# Altium schematic symbol library msp_SchLib.SchLib: 19 symbols
Pins are listed as number, name and electrical type; pins without a type are passive.

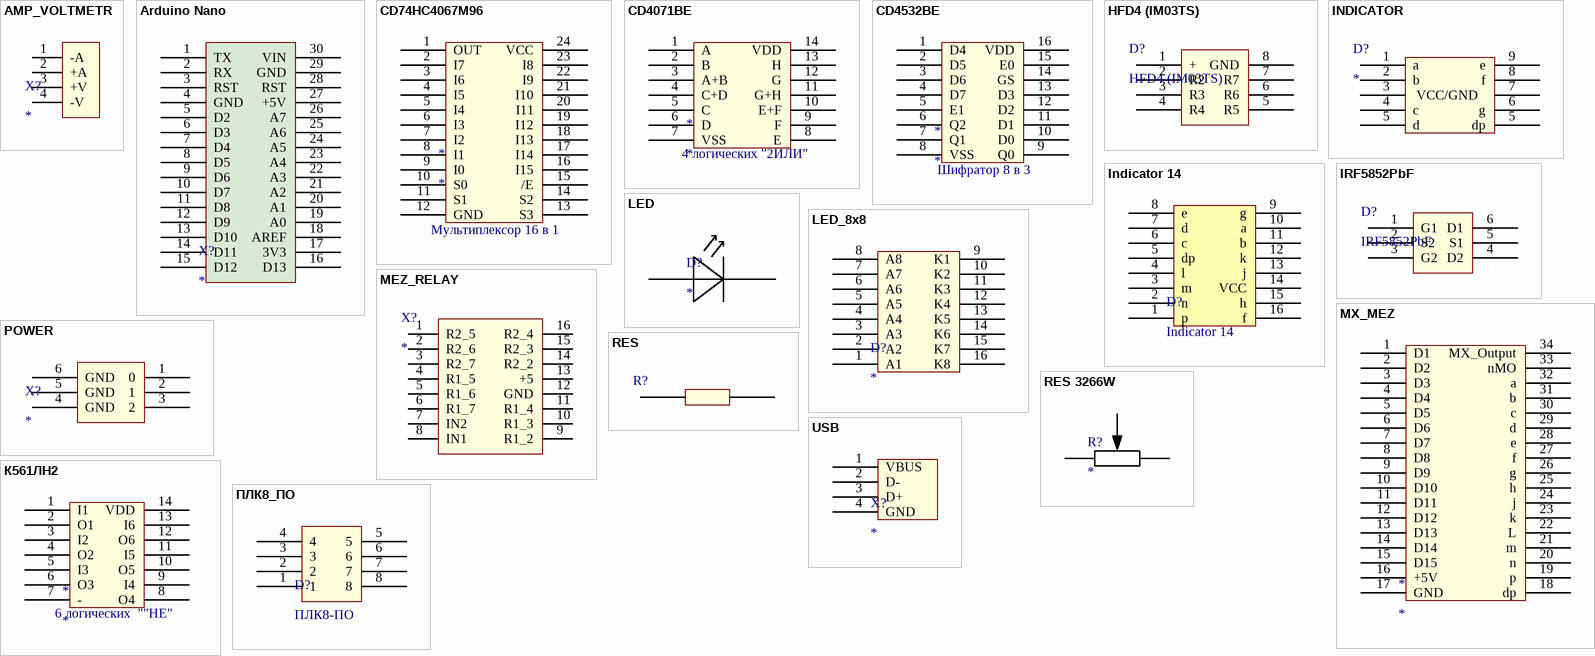
[diagram p0: symbols AMP_VOLTMETR to ПЛК8_ПО]

## AMP_VOLTMETR
designator X?
footprint AMP_VOLTMETR
pins: 1 -A, 2 +A, 3 +V, 4 -V

## Arduino Nano
designator X?
footprint Arduino Nano
pins: 1 TX, 2 RX, 3 RST, 4 GND, 5 D2, 6 D3, 7 D4, 8 D5, 9 D6, 10 D7, 11 D8, 12 D9, 13 D10, 14 D11, 15 D12, 16 D13, 17 3V3, 18 AREF, 19 A0, 20 A1, 21 A2, 22 A3, 23 A4, 24 A5, 25 A6, 26 A7, 27 +5V, 28 RST, 29 GND, 30 VIN

## CD74HC4067M96
designator *
16-и канальный аналоговый мультиплексор/ демультиплексор, [SO-24]
footprint SOIC-24
pins: 1 OUT, 2 I7, 3 I6, 4 I5, 5 I4, 6 I3, 7 I2, 8 I1, 9 I0, 10 S0, 11 S1, 12 GND, 13 S3, 14 S2, 15 /E, 16 I15, 17 I14, 18 I13, 19 I12, 20 I11, 21 I10, 22 I9, 23 I8, 24 VCC
text: Мультиплексор 16 в 1

## CD4071BE
designator *
Четыре логических элемента "2ИЛИ", [DIP-14]
footprint Dip14_pannel
pins: 1 A, 2 B, 3 A+B, 4 C+D, 5 C, 6 D, 7 VSS, 8 E, 9 F, 10 E+F, 11 G+H, 12 G, 13 H, 14 VDD
text: 4 логических "2ИЛИ"

## CD4532BE
designator *
Шифратор приоритетный 8 - 3 [DIP-16]
footprint DIP16_PANNEL
pins: 1 D4, 2 D5, 3 D6, 4 D7, 5 E1, 6 Q2, 7 Q1, 8 VSS, 9 Q0, 10 D0, 11 D1, 12 D2, 13 D3, 14 GS, 15 E0, 16 VDD
text: Шифратор 8 в 3

## HFD4 (IM03TS)
designator D?
footprint HFD4 (IM03TS)
pins: 1 +, 2 R2, 3 R3, 4 R4, 5 R5, 6 R6, 7 R7, 8 GND

## INDICATOR
designator D?
pins: 1 a, 2 b, 3  VCC/GND, 4 c, 5 d, 5 dp, 6 g, 7 16, 8 f, 9 e

## Indicator 14
designator D?
footprint INDICATIR 14 (24.064)
pins: 1 p, 2 n, 3 m, 4 l, 5 dp, 6 c, 7 d, 8 e, 9 g, 10 a, 11 b, 12 k, 13 j, 14 VCC, 15 h, 16 f

## IRF5852PbF
designator D?
footprint IRF5852PbF (TSOP, 6-Leads, Body 3,00x1,50mm, Pitch 1,00mm, IPC Medium Density)
pins: 1 G1, 2 S2, 3 G2, 4 D2, 5 S1, 6 D1

## LED
designator D?
footprint LED 24.063
footprint LED 24.069
pins: 1, 2

## LED_8x8
designator D?
footprint LED_8x8 (24.067)
pins: 1 A1, 2 A2, 3 A3, 4 A4, 5 A5, 6 A6, 7 A7, 8 A8, 9 K1, 10 K2, 11 K3, 12 K4, 13 K5, 14 K6, 15 K7, 16 K8

## MEZ_RELAY
designator X?
footprint MEZ_RELAY (мезонин реле)
pins: 1 R2_5, 2 R2_6, 3 R2_7, 4 R1_5, 5 R1_6, 6 R1_7, 7 IN2, 8 IN1, 9 R1_2, 10 R1_3, 11 R1_4, 12 GND, 13 +5, 14 R2_2, 15 R2_3, 16 R2_4

## MX_MEZ
designator *
footprint MX_MEZ
pins: 1 D1, 2 D2, 3 D3, 4 D4, 5 D5, 6 D6, 7 D7, 8 D8, 9 D9, 10 D10, 11 D11, 12 D12, 13 D13, 14 D14, 15 D15, 16 +5V, 17 GND, 18 dp, 19 p, 20 n, 21 m, 22 L, 23 k, 24 j, 25 h, 26 g, 27 f, 28 e, 29 d, 30 c, 31 b, 32 a, 33 nMO, 34 MX_Output

## POWER
designator X?
footprint POWER
pins: 1 0, 2 1, 3 2, 4 GND, 5 GND, 6 GND

## RES
designator R?, comment resistor  (value not drawn)
footprint RES 0805
pins: 1, 2

## RES 3266W
designator R?
footprint RES 3266W
pins: 1, 2, 3

## USB
designator X?
footprint USB
pins: 1 VBUS, 2 D-, 3 D+, 4 GND

## К561ЛН2
designator *
Шесть логических элементов "HЕ" (DIP-14)
footprint Dip14_pannel
pins: 1 I1, 2 O1, 3 I2, 4 O2, 5 I3, 6 O3, 7 -, 8 O4, 9 I4, 10 O5, 11 I5, 12 O6, 13 I6, 14 VDD
text: 6 логических  ""НЕ"

## ПЛК8_ПО
designator D?, comment ПЛК8-ПО
footprint ПЛК8-ПО (Керамическая панель для радиоламп)
pins: 1, 2, 3, 4, 5, 6, 7, 8